# Altium footprint library DF52.PcbLib: 2 footprints
Each footprint in its own frame and in the unit in brackets; x right, y up, seen from the top. Pads: shape width x height; smd on the part's side, far side on the other; paste and mask are expansions set on the pad; w line width, h text height; cw(c..) or ccw(c..) is an arc to the next point about the centre after c.
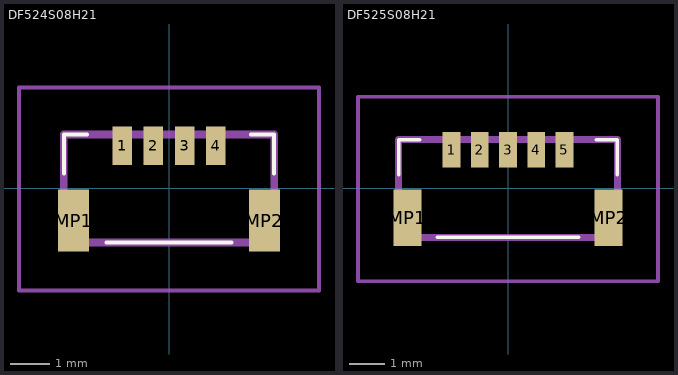
[diagram p0: the footprints below, top view; thin cyan lines are the x and y axes]

## DF524S08H21 [mm]
pads (6):
  rect 0.5x1 smd: 1(-1.2,1.095) 2(-0.4,1.095) 3(0.4,1.095) 4(1.2,1.095)
  rect 0.8x1.6 smd: MP1(-2.45,-0.825) MP2(2.45,-0.825)
Top Overlay:
  lines w0.1: -2.7,0.385 -2.7,1.385 -2.1,1.385 ; -1.6,-1.385 1.6,-1.385 ; 2.1,1.385 2.7,1.385 2.7,0.385
Mechanical 15:
  lines w0.2: -2.7,-1.385 2.7,-1.385 2.7,1.385 -2.7,1.385 -2.7,-1.385
Mechanical 20:
  lines w0.1: -3.85,-2.625 -3.85,2.595 3.85,2.595 3.85,-2.625 -3.85,-2.625
3D body "DF52-4S-0.8H.stp": height 1.75, standoff 0, extent -2.7,-1.385 2.7,1.385

## DF525S08H21 [mm]
pads (7):
  rect 0.5x1 smd: 1(-1.6,1.095) 2(-0.8,1.095) 3(0,1.095) 4(0.8,1.095) 5(1.6,1.095)
  rect 0.8x1.6 smd: MP1(-2.85,-0.825) MP2(2.85,-0.825)
Top Overlay:
  lines w0.1: -3.1,0.385 -3.1,1.385 -2.5,1.385 ; -2,-1.385 2,-1.385 ; 2.5,1.385 3.1,1.385 3.1,0.385
Mechanical 15:
  lines w0.2: -3.1,-1.385 3.1,-1.385 3.1,1.385 -3.1,1.385 -3.1,-1.385
Mechanical 20:
  lines w0.1: -4.25,-2.625 -4.25,2.595 4.25,2.595 4.25,-2.625 -4.25,-2.625
3D body "DF52-5S-0.8H.stp": height 1.75, standoff 0, extent -3.1,-1.397 3.1,1.373